# Altium footprint library adafruit.PCBLIB: 630 footprints (part 34 of 40)
Each footprint in its own frame and in the unit in brackets; x right, y up, seen from the top. Pads: shape width x height; smd on the part's side, far side on the other; paste and mask are expansions set on the pad; w line width, h text height; cw(c..) or ccw(c..) is an arc to the next point about the centre after c.
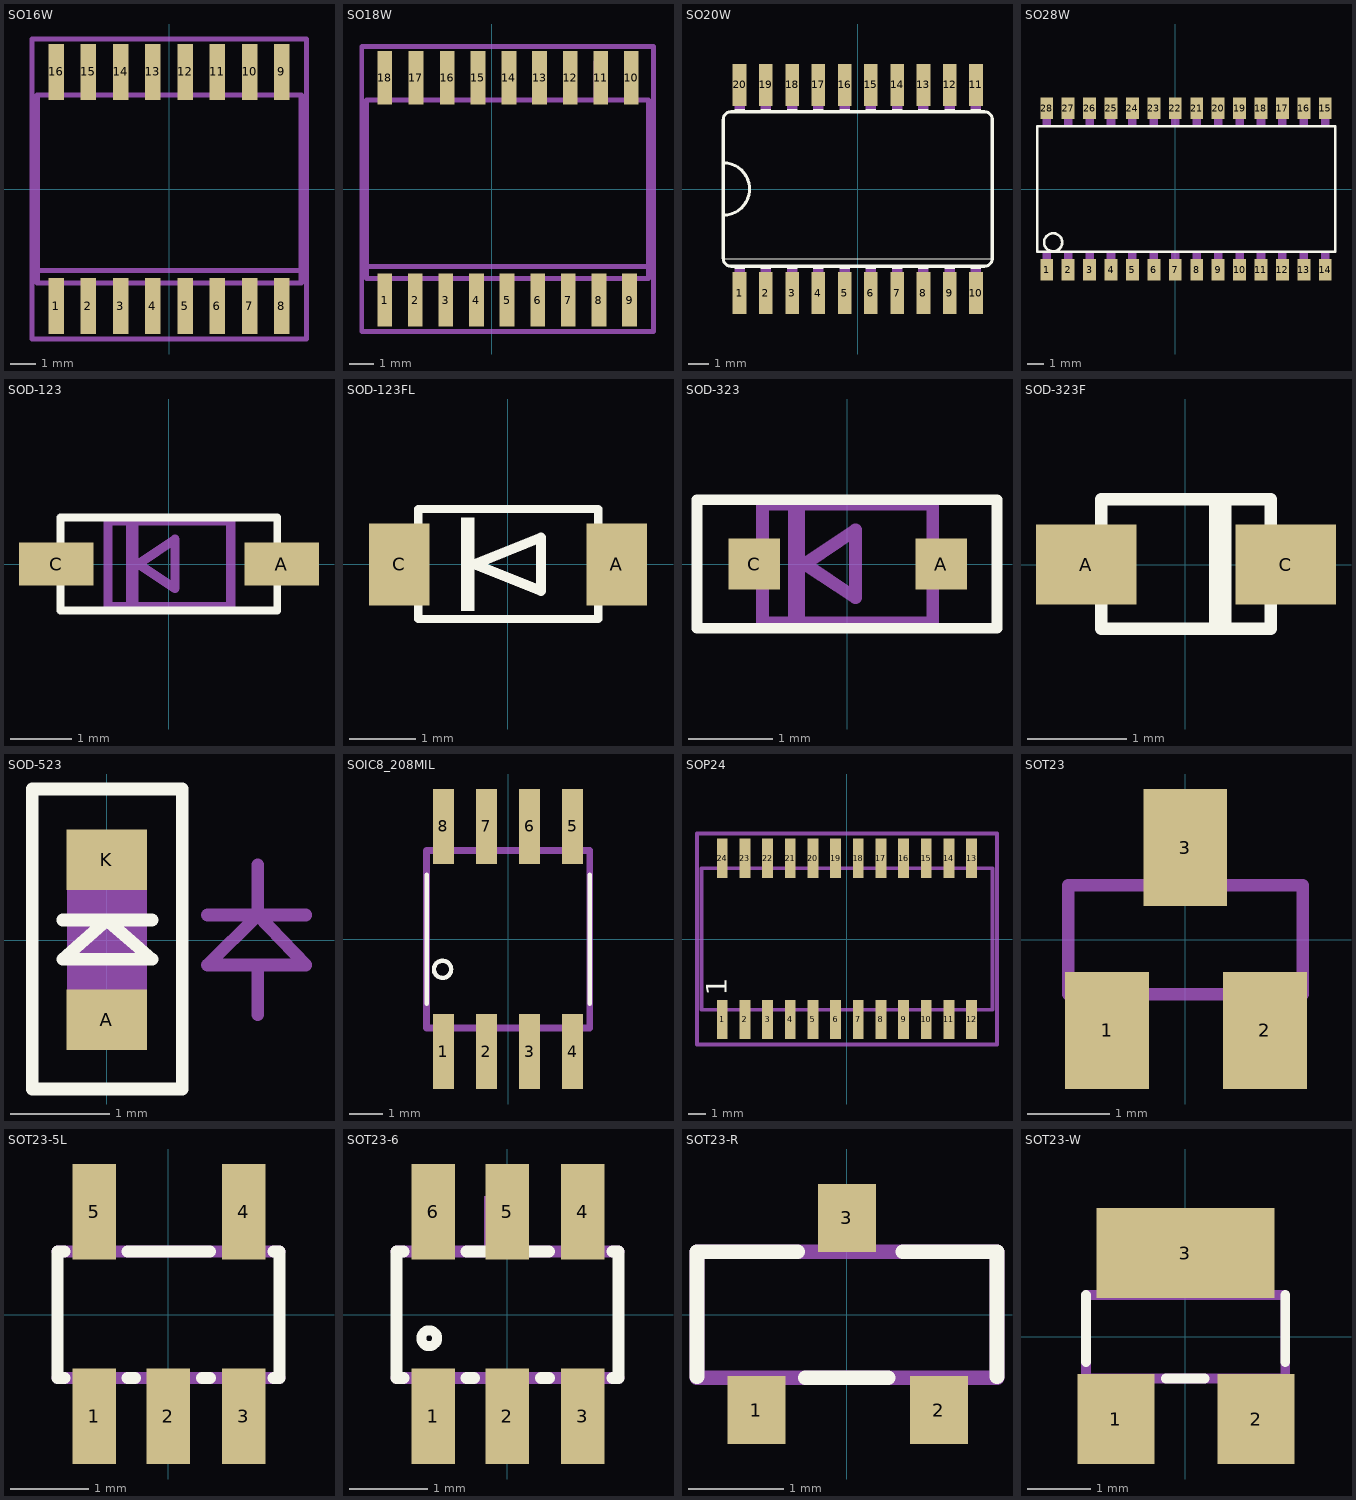
[diagram p33: the footprints below, top view; thin cyan lines are the x and y axes]

## SO16W [mil]
pads (16):
  rect 24x87 smd: 1(-175,-181.1) 2(-125,-181.1) 3(-75,-181.1) 4(-25,-181.1) 5(25,-181.1) 6(75,-181.1) 7(125,-181.1) 8(175,-181.1) 9(175,182) 10(125,182) 11(75,182) 12(25,182) 13(-25,182) 14(-75,182) 15(-125,182) 16(-175,182)
Mechanical 16:
  rectangle: -184.65,-209.45 -165.35,-149.61
  rectangle: -134.65,-209.45 -115.35,-149.61
  rectangle: -84.65,-209.45 -65.35,-149.61
  rectangle: -34.65,-209.45 -15.35,-149.61
  rectangle: 16,-209.45 35,-149.61
  rectangle: 66,-209.45 85,-149.61
  rectangle: 116,-209.45 135,-149.61
  rectangle: 166,-209.45 185,-149.61
  rectangle: 166,150 185,210
  rectangle: 116,150 135,210
  rectangle: 66,150 85,210
  rectangle: 16,150 35,210
  rectangle: -34.65,150 -15.35,210
  rectangle: -84.65,150 -65.35,210
  rectangle: -134.65,150 -115.35,210
  rectangle: -184.65,150 -165.35,210
  lines w8: -204.33,-125.98 -204.33,-145.67 205,-145.67 205,-125.98 ; -204.33,-125.98 -204.33,146 205,146 205,-125.98 ; -204.33,-125.98 205,-125.98
Mechanical 27:
  lines w8: -212.4,-232.28 213,-232.28 213,233 -212.4,233 -212.4,-232.28

## SO18W [mil]
pads (18):
  rect 24x87 smd: 1(-175,-181.1) 2(-125,-181.1) 3(-75,-181.1) 4(-25,-181.1) 5(25,-181.1) 6(75,-181.1) 7(125,-181.1) 8(175,-181.1) 9(225,-181.1) 10(228,182) 11(178,182) 12(128,182) 13(78,182) 14(28,182) 15(-22.64,182) 16(-72.64,182) 17(-123.82,182) 18(-175,182)
Mechanical 16:
  rectangle: -184.65,-209.45 -165.35,-149.61
  rectangle: -134.65,-209.45 -115.35,-149.61
  rectangle: -84.65,-209.45 -65.35,-149.61
  rectangle: -34.65,-209.45 -15.35,-149.61
  rectangle: 16,-209.45 35,-149.61
  rectangle: 66,-209.45 85,-149.61
  rectangle: 116,-209.45 135,-149.61
  rectangle: 166,-209.45 185,-149.61
  rectangle: 216,150 235,210
  rectangle: 166,150 185,210
  rectangle: 117,150 136,210
  rectangle: 67,150 86,210
  rectangle: 17,150 36,210
  rectangle: -33.47,150 -14.17,210
  rectangle: -83.47,150 -64.17,210
  rectangle: -133.47,150 -114.17,210
  rectangle: -184.65,150 -165.35,210
  rectangle: 216,-209.44 235,-149.61
  lines w8: -204.33,-125.98 -204.33,-145.67 256,-145.67 256,-125.98 ; -204.33,-125.98 -204.33,146 256,146 256,-125.98 ; -204.33,-125.98 256,-125.98
Mechanical 27:
  lines w8: -212.4,-232.28 264,-232.28 264,233 -212.4,233 -212.4,-232.28

## SO20W [mil]
pads (20):
  rect 26x80 smd: 1(-225,-198) 2(-175,-198) 3(-125,-198) 4(-75,-198) 5(-25,-198) 6(25,-198) 7(75,-198) 8(125,-198) 9(175,-198) 10(225,-198) 11(225,198) 12(175,198) 13(125,198) 14(75,198) 15(25,198) 16(-25,198) 17(-75,198) 18(-125,198) 19(-175,198) 20(-225,198)
Top Overlay:
  rectangle: -235,-152 -215,-147
  rectangle: -185,-152 -165,-147
  rectangle: -135,-152 -115,-147
  rectangle: -85,-152 -65,-147
  rectangle: -35,-152 -15,-147
  rectangle: 15,-152 35,-147
  rectangle: 65,-152 85,-147
  rectangle: 115,-152 135,-147
  rectangle: -235,147 -215,152
  rectangle: -185,147 -165,152
  rectangle: -135,147 -115,152
  rectangle: -85,147 -65,152
  rectangle: -35,147 -15,152
  rectangle: 15,147 35,152
  rectangle: 65,147 85,152
  rectangle: 115,147 135,152
  rectangle: 165,147 185,152
  rectangle: 215,147 235,152
  rectangle: 165,-152 185,-147
  rectangle: 215,-152 235,-147
  lines w2: -255,-133 255,-133
  lines w6: -256,-50 -256,50 ; -256,-50 -256,-132 ccw(c-241,-132) -241,-147 241,-147 ccw(c241,-132) 256,-132 256,132 ccw(c241,132) 241,147 -241,147 ccw(c-241,132) -256,132 -256,50 ; -256,-50 ccw(c-256,0) -256,50
Mechanical 16:
  rectangle: -235,-210 -215,-152
  rectangle: -185,-210 -165,-152
  rectangle: -135,-210 -115,-152
  rectangle: -85,-210 -65,-152
  rectangle: -35,-210 -15,-152
  rectangle: 15,-210 35,-152
  rectangle: 65,-210 85,-152
  rectangle: 115,-210 135,-152
  rectangle: -235,152 -215,210
  rectangle: -185,152 -165,210
  rectangle: -135,152 -115,210
  rectangle: -85,152 -65,210
  rectangle: -35,152 -15,210
  rectangle: 15,152 35,210
  rectangle: 65,152 85,210
  rectangle: 115,152 135,210
  rectangle: 165,152 185,210
  rectangle: 215,152 235,210
  rectangle: 165,-210 185,-152
  rectangle: 215,-210 235,-152

## SO28W [mil]
pads (28):
  rect 30x50 smd: 1(-300,-188.19) 2(-250,-188.19) 3(-200,-188.19) 4(-150,-188.19) 5(-100,-188.19) 6(-50,-188.19) 7(0,-188.19) 8(50,-188.19) 9(100,-188.19) 10(150,-188.19) 11(200,-188.19) 12(250,-188.19) 13(300,-188.19) 14(350,-188.19) 15(350,189) 16(300,189) 17(250,189) 18(200,189) 19(150,189) 20(100,189) 21(50,189) 22(0,189) 23(-50,189) 24(-100,189) 25(-150,189) 26(-200,189) 27(-250,189) 28(-300,189)
Top Overlay:
  circle w6: c-285,-124 r21
  lines w6: -322,-146.19 373,-146.19 373,147 -322,147 -322,-146.19
Mechanical 16:
  rectangle: -310,-207.19 -290,-147.19
  rectangle: -260,-207.19 -240,-147.19
  rectangle: -210,-207.19 -190,-147.19
  rectangle: -160,-207.19 -140,-147.19
  rectangle: -110,-207.19 -90,-147.19
  rectangle: -60,-207.19 -40,-147.19
  rectangle: -10,-207.19 10,-147.19
  rectangle: 40,-207.19 60,-147.19
  rectangle: 90,-207.19 110,-147.19
  rectangle: 140,-207.19 160,-147.19
  rectangle: 190,-207.19 210,-147.19
  rectangle: 240,-207.19 260,-147.19
  rectangle: 290,-207.19 310,-147.19
  rectangle: 340,-207.19 360,-147.19
  rectangle: 340,148 360,208
  rectangle: 290,148 310,208
  rectangle: 240,148 260,208
  rectangle: 190,148 210,208
  rectangle: 140,148 160,208
  rectangle: 90,148 110,208
  rectangle: 40,148 60,208
  rectangle: -10,148 10,208
  rectangle: -60,148 -40,208
  rectangle: -110,148 -90,208
  rectangle: -160,148 -140,208
  rectangle: -210,148 -190,208
  rectangle: -260,148 -240,208
  rectangle: -310,148 -290,208

## SOD-123 [mil]
pads (2):
  rect 48x28 smd: A(73,0) C(-72.83,0)
Top Overlay:
  lines w5: -70,-30 70,-30 70,30 -70,30 -70,-30
Mechanical 16:
  rectangle: -27.56,-27.56 -19.68,28
  lines w6: -39.37,-27.56 40,-27.56 40,28 -39.37,28 -39.37,-27.56 ; -19.68,0 4,16 4,-15.75 -19.68,0

## SOD-123FL [mil]
pads (2):
  rect 36x49 smd: A(65,0) C(-64.47,0)
Top Overlay:
  rectangle: -27.56,-27.56 -19.68,28
  lines w5: -53.15,-32.48 54,-32.48 54,33 -53.15,33 -53.15,-32.48
  lines w6: -19.68,0 20,16 20,-15.75 -19.68,0

## SOD-323 [mil]
pads (2):
  rect 24x24 smd: A(44,0) C(-43.31,0)
Top Overlay:
  lines w5: -70,-30 70,-30 70,30 -70,30 -70,-30
Mechanical 16:
  rectangle: -27.56,-27.56 -19.68,28
  lines w6: -39.37,-27.56 40,-27.56 40,28 -39.37,28 -39.37,-27.56 ; -19.68,0 4,16 4,-15.75 -19.68,0
  text "41" at 22,12 h37.2

## SOD-323F [mil]
pads (2):
  rect 40x32 smd: A(-39.37,0) C(40,0)
Top Overlay:
  lines w5: 12,24 12,-23.62 16,-23.62 16,24 ; -33.46,-25.59 34,-25.59 34,26 -33.46,26 -33.46,-25.59
Mechanical 16:
  lines w5: -35.43,-7.87 -47.24,-7.87 -47.24,8 -35.43,8 ; 36,-7.87 48,-7.87 48,8 36,8

## SOD-523 [mil]
pads (2):
  rect 32x24 smd: A(0,-31.5) K(0,32)
Top Overlay:
  lines w5: -17.5,8 18,8 ; -29.53,-59.06 30,-59.06 30,60 -29.53,60 -29.53,-59.06 ; -17.5,-7.5 18,-7.5 0,8 -17.5,-7.5
Mechanical 16:
  rectangle: -15.75,-23.62 16,24
  rectangle: -5.91,-31.5 6,-23.62
  rectangle: -5.91,24 6,32
  lines w5: 40,10 60,10 ; 60,-29.53 60,-9.84 ; 60,30 60,10 ; 79,10 60,10 ; 60,-9.84 40,-9.84 60,10 ; 60,-9.84 79,-9.84 60,10

## SOIC8_208MIL [mil]
pads (8):
  rect 24x87 smd: 1(-75,-130.51) 2(-25,-130.51) 3(25,-130.51) 4(75,-130.51) 5(75,131) 6(25,131) 7(-25,131) 8(-75,131)
Top Overlay:
  circle w5: c-76,-35 r10
  lines w5: -94.49,-74.8 -94.49,75 ; 95,-74.8 95,75
Mechanical 16:
  rectangle: -84.65,-150.2 -65.35,-106.89
  rectangle: -34.65,-150.2 -15.35,-106.89
  rectangle: 16,-150.2 35,-106.89
  rectangle: 66,-150.2 85,-106.89
  rectangle: 66,107 85,151
  rectangle: 16,107 35,151
  rectangle: -34.65,107 -15.35,151
  rectangle: -84.65,107 -65.35,151
  lines w8: -94.49,-102.95 95,-102.95 95,103 -94.49,103 -94.49,-102.95

## SOP24 [mil]
pads (24):
  rect 24x87 smd: 1(-275,-177.17) 2(-225,-177.17) 3(-175,-177.17) 4(-125,-177.17) 5(-75,-177.17) 6(-25,-177.17) 7(25,-177.17) 8(75,-177.17) 9(125,-177.17) 10(175,-177.17) 11(225,-177.17) 12(275,-177.17) 13(275,178) 14(225,178) 15(175,178) 16(125,178) 17(75,178) 18(25,178) 19(-25,178) 20(-75,178) 21(-125,178) 22(-175,178) 23(-225,178) 24(-275,178)
Top Overlay:
  text "1" at -250,-125 h77.5
Mechanical 16:
  rectangle: -284.84,-212.2 -265.16,-159.84
  rectangle: -234.84,-212.2 -215.16,-159.84
  rectangle: -184.84,-212.2 -165.16,-159.84
  rectangle: -134.84,-212.2 -115.16,-159.84
  rectangle: -84.84,-212.2 -65.16,-159.84
  rectangle: -34.84,-212.2 -15.16,-159.84
  rectangle: 16,-212.2 35,-159.84
  rectangle: 66,-212.2 85,-159.84
  rectangle: 116,-212.2 135,-159.84
  rectangle: 166,-212.2 185,-159.84
  rectangle: 216,-212.2 235,-159.84
  rectangle: 266,-212.2 285,-159.84
  rectangle: 266,160 285,213
  rectangle: 216,160 235,213
  rectangle: 166,160 185,213
  rectangle: 116,160 135,213
  rectangle: 66,160 85,213
  rectangle: 16,160 35,213
  rectangle: -34.84,160 -15.16,213
  rectangle: -84.84,160 -65.16,213
  rectangle: -134.84,160 -115.16,213
  rectangle: -184.84,160 -165.16,213
  rectangle: -234.84,160 -215.16,213
  rectangle: -284.84,160 -265.16,213
  lines w8: -320.67,-155.91 321,-155.91 321,156 -320.67,156 -320.67,-155.91
Mechanical 27:
  lines w8: -330.71,-232.28 -330.71,233 331,233 331,-232.28 -330.71,-232.28

## SOT23 [mil]
pads (3):
  rect 40x56 smd: 1(-37.4,-43.31) 2(38,-43.31) 3(0,44)
Mechanical 16:
  rectangle: -9,28 9,51
  rectangle: 28,-51 46,-28
  rectangle: -46,-51 -28,-28
  lines w6: -56,-26 56,-26 56,26 -56,26 -56,-26

## SOT23-5L [mil]
pads (5):
  rect 22x48 smd: 1(-37.4,-51.18) 2(0,-51.18) 3(38,-51.18) 4(38,52) 5(-37.4,52)
Top Overlay:
  lines w6: -52.28,-31.89 -55.98,-31.89 -55.98,32 -52.28,32 ; -20.55,-31.89 -16.85,-31.89 ; -20.55,32 21,32 ; 17,-31.89 21,-31.89 ; 53,-31.89 56,-31.89 56,32 53,32
Mechanical 16:
  rectangle: -47.24,-59.06 -27.56,-33.46
  rectangle: -9.84,-59.06 10,-33.46
  rectangle: 28,-59.06 48,-33.46
  rectangle: 28,34 48,60
  rectangle: -47.24,34 -27.56,60
  lines w6: -55.98,-31.89 56,-31.89 ; -55.98,32 56,32

## SOT23-6 [mil]
pads (6):
  rect 22x48 smd: 1(-37.4,-51.18) 2(0,-51.18) 3(38,-51.18) 4(38,52) 5(0,52) 6(-37.4,52)
Top Overlay:
  circle w5: c-39.37,-11.81 r4
  lines w6: -52.28,-31.89 -55.98,-31.89 -55.98,32 -52.28,32 ; -20.55,-31.89 -16.85,-31.89 ; -20.55,32 21,32 ; 17,-31.89 21,-31.89 ; 53,-31.89 56,-31.89 56,32 53,32
Mechanical 16:
  rectangle: -47.24,-59.06 -27.56,-33.46
  rectangle: -9.84,-59.06 10,-33.46
  rectangle: 28,-59.06 48,-33.46
  rectangle: 28,34 48,60
  rectangle: -47.24,34 -27.56,60
  rectangle: -11.81,34 8,60
  lines w6: -55.98,-31.89 56,-31.89 ; -55.98,32 56,32

## SOT23-R [mil]
pads (3):
  rect 24x28 smd: 1(-37.4,-39.37) 2(38,-39.37) 3(0,40)
Top Overlay:
  lines w6: -61.91,-25.68 -61.91,26 -20.22,26 ; -17.18,-26 17,-26 ; 23,26 62,26 62,-25.68
Mechanical 16:
  rectangle: -9,28 9,51
  rectangle: 28,-51 46,-28
  rectangle: -46,-51 -28,-28
  lines w6: -61.91,-26 62,-26 62,26 -61.91,26 -61.91,-26

## SOT23-W [mil]
pads (3):
  rect 48x56 smd: 1(-43.31,-51.18) 2(44,-51.18)
  rect 111x56 smd: 3(0,52)
Top Overlay:
  lines w6: -61.91,-15.69 -61.91,26 ; -12.18,-26 12,-26 ; 62,-15.69 62,26
Mechanical 16:
  rectangle: -9,28 9,51
  rectangle: 28,-51 46,-28
  rectangle: -46,-51 -28,-28
  lines w6: -61.91,-26 62,-26 62,26 -61.91,26 -61.91,-26